# EAGLE library part ESP8266EX (library wifi)
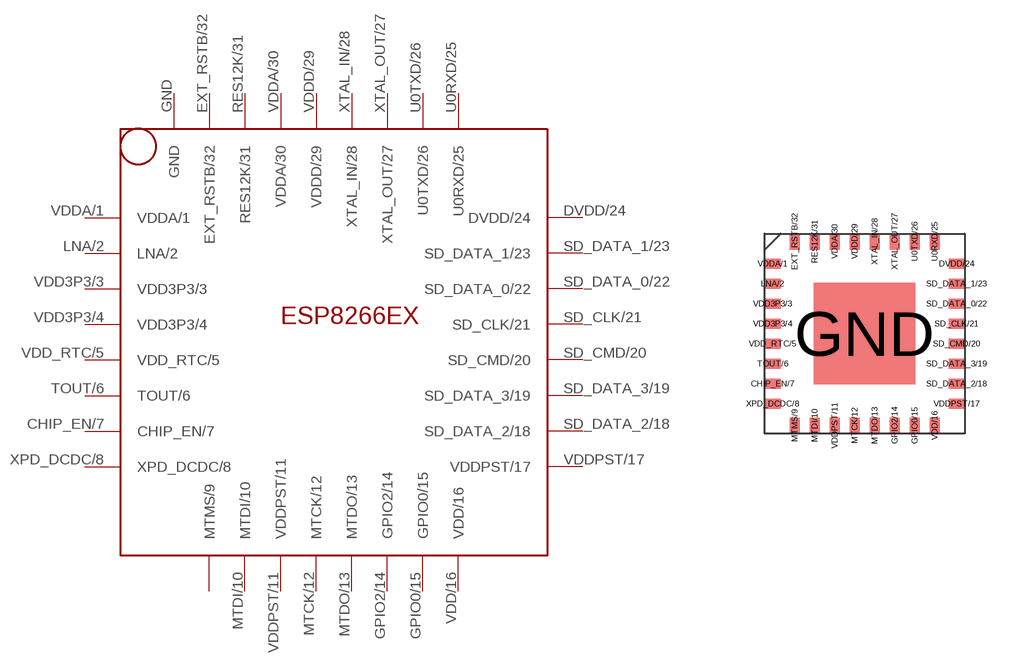
[diagram p0: symbol with the pads of QFN32; footprint QFN32]

Designator prefix -

## ESP8266EX  [QFN32]
CHIP_EN/7  CHIP_EN/7
DVDD/24  DVDD/24
EXT_RSTB/32  EXT_RSTB/32
GND  GND
GPIO0/15  GPIO0/15
GPIO2/14  GPIO2/14
LNA/2  LNA/2
MTCK/12  MTCK/12
MTDI/10  MTDI/10
MTDO/13  MTDO/13
MTMS/9  MTMS/9
RES12K/31  RES12K/31
SD_CLK/21  SD_CLK/21
SD_CMD/20  SD_CMD/20
SD_DATA_0/22  SD_DATA_0/22
SD_DATA_1/23  SD_DATA_1/23
SD_DATA_2/18  SD_DATA_2/18
SD_DATA_3/19  SD_DATA_3/19
TOUT/6  TOUT/6
U0RXD/25  U0RXD/25
U0TXD/26  U0TXD/26
VDD3P3/3  VDD3P3/3
VDD3P3/4  VDD3P3/4
VDD/16  VDD/16
VDD_RTC/5  VDD_RTC/5
VDDA/1  VDDA/1
VDDA/30  VDDA/30
VDDD/29  VDDD/29
VDDPST/11  VDDPST/11
VDDPST/17  VDDPST/17
XPD_DCDC/8  XPD_DCDC/8
XTAL_IN/28  XTAL_IN/28
XTAL_OUT/27  XTAL_OUT/27

## Footprint QFN32 (pad centres in mm)
smd 0.4 x 0.25: CHIP_EN/7 -2.3,-1.25; DVDD/24 2.3,1.75; LNA/2 -2.3,1.25; SD_CLK/21 2.3,0.25; SD_CMD/20 2.3,-0.25; SD_DATA_0/22 2.3,0.75; SD_DATA_1/23 2.3,1.25; SD_DATA_2/18 2.3,-1.25; SD_DATA_3/19 2.3,-0.75; TOUT/6 -2.3,-0.75; VDD3P3/3 -2.3,0.75; VDD3P3/4 -2.3,0.25; VDD_RTC/5 -2.3,-0.25; VDDA/1 -2.3,1.75; VDDPST/17 2.3,-1.75; XPD_DCDC/8 -2.3,-1.75
smd 0.25 x 0.4: EXT_RSTB/32 -1.75,2.3; GPIO0/15 1.25,-2.3; GPIO2/14 0.75,-2.3; MTCK/12 -0.25,-2.3; MTDI/10 -1.25,-2.3; MTDO/13 0.25,-2.3; MTMS/9 -1.75,-2.3; RES12K/31 -1.25,2.3; U0RXD/25 1.75,2.3; U0TXD/26 1.25,2.3; VDD/16 1.75,-2.3; VDDA/30 -0.75,2.3; VDDD/29 -0.25,2.3; VDDPST/11 -0.75,-2.3; XTAL_IN/28 0.25,2.3; XTAL_OUT/27 0.75,2.3
smd 2.54 x 2.54: GND 0,0